# Altium schematic symbol library Photo NPN.Schlib: 1 symbol
Pins are listed as number, name and electrical type; pins without a type are passive.

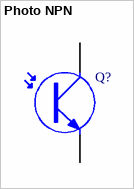
[diagram p0: symbol Photo NPN]

## Photo NPN
designator Q?
NPN Phototransistor
pins: 1 C, 3 E